# Altium schematic symbol library STTH1R04A.SchLib: 1 symbol
Pins are listed as number, name and electrical type; pins without a type are passive.

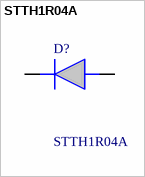
[diagram p0: symbol STTH1R04A]

## STTH1R04A
designator D?
Rectifiers Ultrafast recovery Diode 1 A - 400 V; Manufacturer_Name: STMicroelectronics; Geometry.Height: 2.65mm; Mouser Part Number: 511-STTH1R04A; Mouser Price/Stock: https://www.mouser.co.uk/ProductDetail/STMicroelectronics/STTH1R04A?qs=%252BB84zevwoRDGXZQYojB4Uw%3D%3D; Manufacturer_Part_Number: STTH1R04A; Datasheet Link: https://www.st.com/resource/en/datasheet/stth1r04.pdf
footprint DIOM5126X265N
pins: 1 K, 2 A